# EAGLE library part STC3115 (library Capstone Library)
STC3115 Li-Ion Gas gauge IC with alarm output for handheld applications
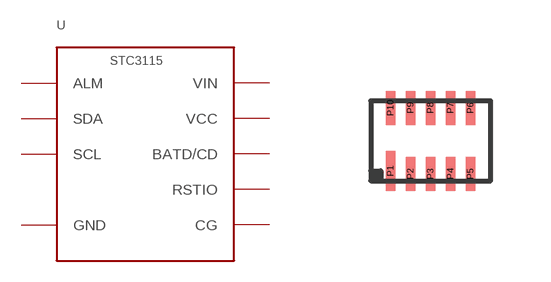
[diagram p3: symbol with the pads of DFN10-2X3; footprint DFN10-2X3]

Designator prefix -

## STC3115  [DFN10-2X3]
P1  ALM
P2  SDA
P3  SCL
P5  GND
P6  CG
P7  RSTIO
P8  BATD/CD
P9  VCC
P10  VIN

## Footprint DFN10-2X3 (pad centres in mm)
DFN-10 Pad 2mm x 3mm with extended Pin 1 and extended NSMD opening with 0.075mm clearance from pins.
smd 0.23 x 1: P1 -1,-0.75
smd 0.23 x 0.85: P2 -0.5,-0.825; P3 0,-0.825; P4 0.5,-0.825; P5 1,-0.825; P6 1,0.825; P7 0.5,0.825; P8 0,0.825; P9 -0.5,0.825; P10 -1,0.825